# EAGLE library part CK102X02 (library SPCoast)
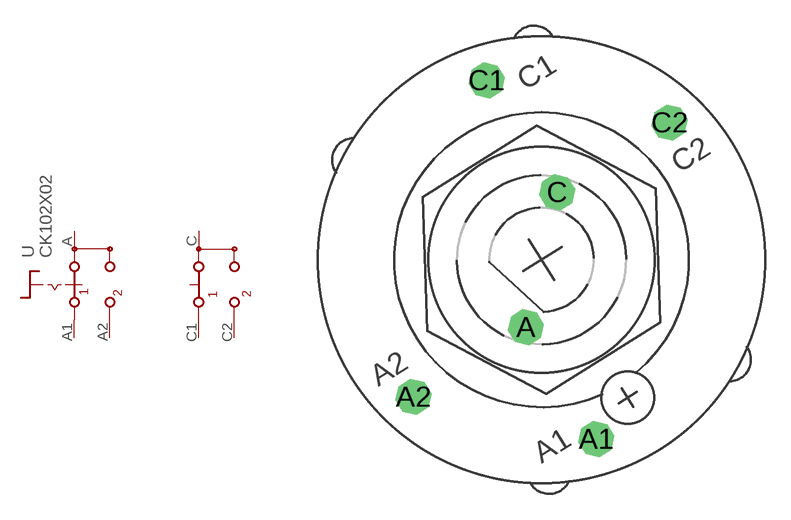
[diagram p85: symbol with the pads of CK102X02; footprint CK102X02]

Designator prefix -

## CK102X02  [CK102X02]
A  A  pas
A1  A1  pas
A2  A2  pas
C  C  pas
C1  C1  pas
C2  C2  pas

## Footprint CK102X02 (pad centres in mm)
drill 1.321 octagon: A -0.913,-3.955; A1 3.214,-10.511; A2 -7.496,-8.039; C 0.913,3.955; C1 -3.214,10.511; C2 7.496,8.039